# Altium integrated library pogo.IntLib: 1 symbol
Pins are listed as number, name and electrical type; pins without a type are passive.

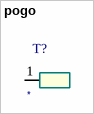
[diagram p0: symbol pogo]

## pogo
designator T?
ID: Pogo Pin w/ Pointed Tip; PDF: http://www.sparkfun.com/datasheets/Prototyping/Connectors/conical_pogo_pin_09iv09.pdf; BUY_LINK: https://www.sparkfun.com/products/9174; PRICE: 0.95
footprint pogo
pins: 1